# Altium schematic symbol library NCV1117ST33T3G.SchLib: 1 symbol
Pins are listed as number, name and electrical type; pins without a type are passive.

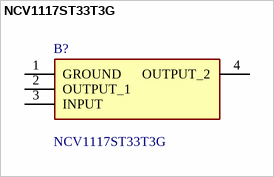
[diagram p0: symbol NCV1117ST33T3G]

## NCV1117ST33T3G
designator B?
ON SEMICONDUCTOR - NCV1117ST33T3G - Fixed LDO Voltage Regulator, 20V in, 1.07V Dropout, 3.3V/1A out, SOT-223-3; Manufacturer_Name: onsemi; Geometry.Height: 1.8mm; Mouser Part Number: 863-NCV1117ST33T3G; Mouser Price/Stock: https://www.mouser.co.uk/ProductDetail/onsemi/NCV1117ST33T3G?qs=8sOby8ZxZLHgqg5CFzeqiA%3D%3D; Manufacturer_Part_Number: NCV1117ST33T3G; Datasheet Link: http://www.onsemi.com/pub/Collateral/NCP1117-D.PDF
footprint SOT230P700X180-4N
pins: 1 GROUND, 2 OUTPUT_1, 3 INPUT, 4 OUTPUT_2